# EAGLE library part ATTINY13A-SSU (library ICs)
ATTINY13A-SSU, 8 bit AVR Microcontroller 20MHz 1, 64kB, B Flash, 64B RAM, SPI 8-Pin SOIC Source: Datasheet <http://www.mouser.com/datasheet/2/268/doc8126-1315482.pdf>
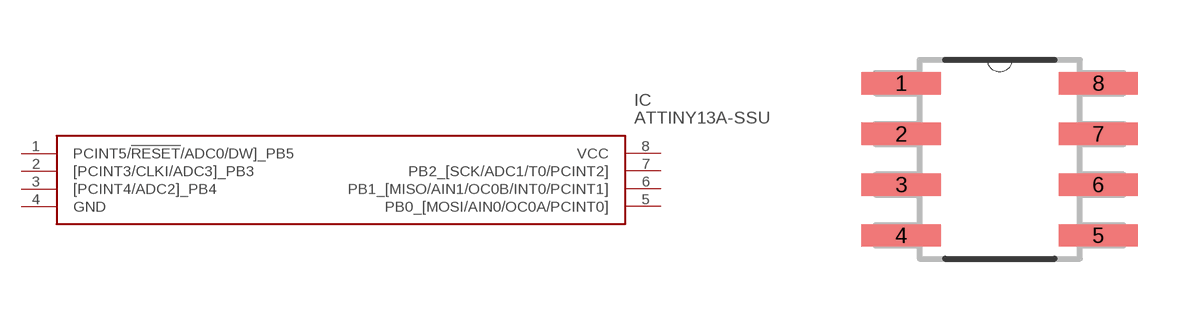
[diagram p4: symbol with the pads of SOIC127P600X175-8N; footprint SOIC127P600X175-8N]

Designator prefix IC

## ATTINY13A-SSU (DESCRIPTION: ATTINY13A-SSU, 8 bit AVR Microcontroller 20MHz 1, 64kB, B Flash, 64B RAM, SPI 8-Pin SOIC; HEIGHT: 1.75mm; MANUFACTURER_NAME: Microchip; MANUFACTURER_PART_NUMBER: ATTINY13A-SSU; MOUSER_PART_NUMBER: 556-ATTINY13A-SSU)  [SOIC127P600X175-8N]
1  PCINT5/!RESET!/ADC0/DW]_PB5  in
2  [PCINT3/CLKI/ADC3]_PB3  in
3  [PCINT4/ADC2]_PB4  in
4  GND  pwr
5  PB0_[MOSI/AIN0/OC0A/PCINT0]  in
6  PB1_[MISO/AIN1/OC0B/INT0/PCINT1]  in
7  PB2_[SCK/ADC1/T0/PCINT2]  in
8  VCC  pwr

## Footprint SOIC127P600X175-8N (pad centres in mm)
smd 1.981 x 0.559: 1 -2.464,1.905; 2 -2.464,0.635; 3 -2.464,-0.635; 4 -2.464,-1.905; 5 2.464,-1.905; 6 2.464,-0.635; 7 2.464,0.635; 8 2.464,1.905